# EAGLE library part TLV3011 (library texas)
Comparator with Voltage Reference Open Drain
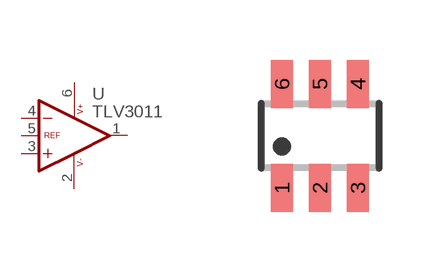
[diagram p132: symbol with the pads of SOT23-6; footprint SOT23-6]

Designator prefix U

## TLV3011DCK  [SOT23-6]
1  OUT  oc
2  V-  pwr
3  +IN  in
4  -IN  in
5  REF  in
6  V+  pwr

## Footprint SOT23-6 (pad centres in mm)
SOT-23 - DBV 0.95 mm pitch
smd 0.55 x 1.2: 1 -0.95,-1.3; 2 0,-1.3; 3 0.95,-1.3; 4 0.95,1.3; 5 0,1.3; 6 -0.95,1.3